# Altium schematic symbol library Resistor.SchLib: 4 symbols
Pins are listed as number, name and electrical type; pins without a type are passive.

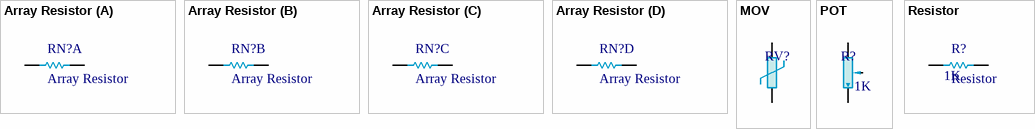
[diagram p0: symbols Array Resistor to Resistor]

## Array Resistor
designator RN?
footprint 4*0603-array
part A pins: 1, 8
part B pins: 2, 7
part C pins: 3, 6
part D pins: 4, 5

## MOV
designator RV?, comment Metal Oxide Varistor  (value not drawn)
footprint MOV_5D (VDR, VARISTOR, 7X6.5, pitch: 5.0mm)
footprint MOV_7D (VDR, VARISTOR, 9X5.6, pitch: 5.0mm, 275VAC(RMS))
footprint MOV_10D (VDR, VARISTOR, 12.5X5.6, pitch: 7.6mm, 420VAC(RMS))
footprint MOV_20D (VDR, VARISTOR, 23X5.6mm, pitch: 7.6mm, MOV-07DxxxK Metal Oxide Varistor (MOVs))
pins: 1, 2

## POT
designator R?, comment value 1K  (hidden comment: Multi Turn Potentiometr)
Trim Potentiometer
footprint bourns-3296w (Bourns 3296w)
footprint trp-200 (Trimpot - 200mil Pitch)
footprint EVM1D (4 mm Square SMT Trimmer Potentiometers)
footprint EVM3G (3 mm Square SMT Trimmer Potentiometers)
pins: 1, 2, 3

## Resistor
designator R?  value 1K
footprint res-axl-400 (1/4W Resistor - Axial Mount)
footprint res-axl-700 (1W Resistor - Axial Mount)
footprint RES-AXL-800 (3W Resistor)
footprint res-ver-100 (1/4W Vertical Mount Resistor)
footprint res-ver-200 (1W Vertical Mount Resistor)
footprint res-brk-9*22
footprint R 0201(0603)
footprint R 0402(1005)
footprint R 0603(1608)
footprint R 0805(2012)
footprint R 1206(3216)
footprint R 1210(3225)
footprint R 1218(3246)
footprint R 1812(4532)
footprint R 2010(5025)
footprint R 2512(6432)
footprint R 3225N (Chip Resistor, Body 3.2x2.5mm, IPC Medium Density)
pins: 1, 2